# EAGLE library part TMS320DM365ZCE21 (library TMS320DM365ZCE21)
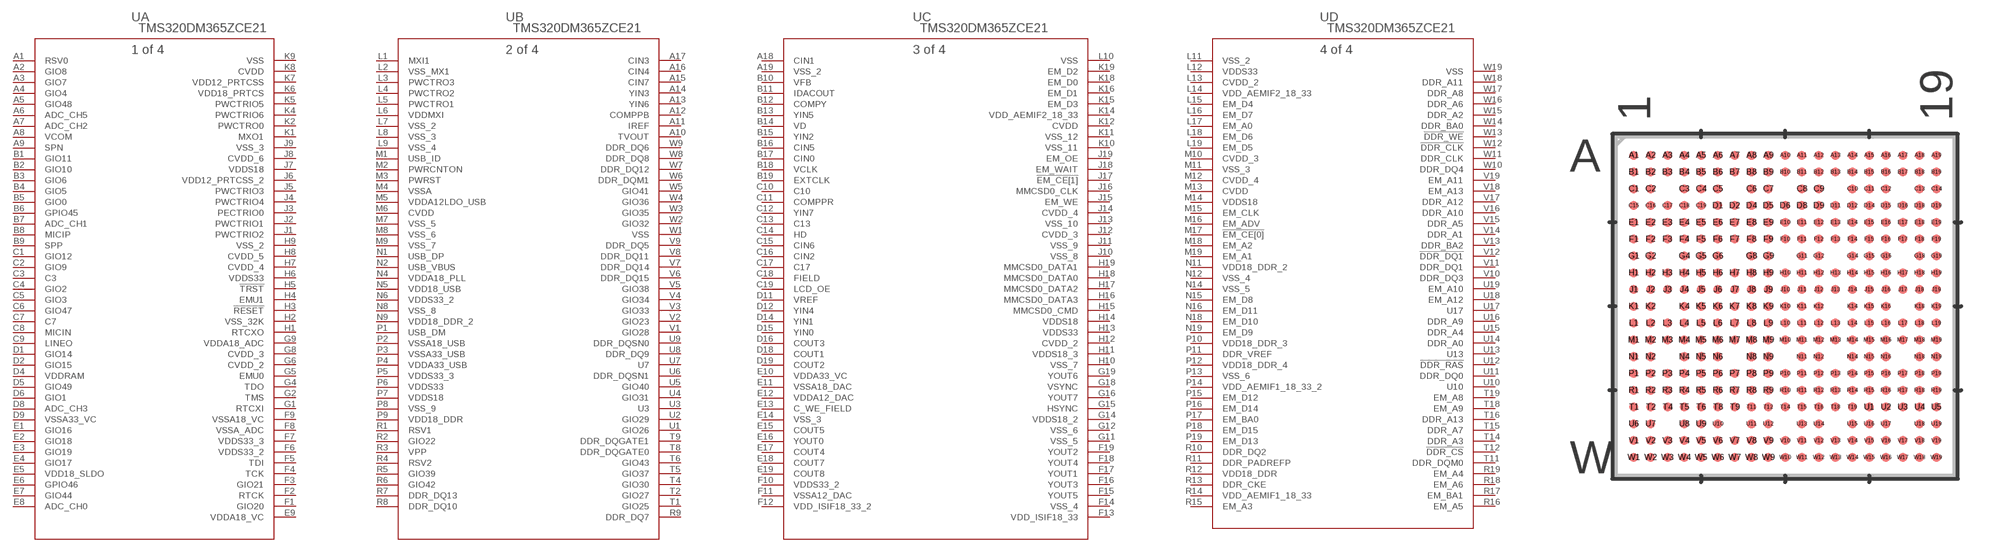
[diagram p0: symbol with the pads of ZCE338; footprint ZCE338]

Designator prefix U; gates A=TMS320DM365ZCE21_A B=TMS320DM365ZCE21_B C=TMS320DM365ZCE21_C D=TMS320DM365ZCE21_D

## TMS320DM365ZCE21 (MANUFACTURER_PART_NUMBER: TMS320DM365ZCE21; VENDOR: Texas Instruments)  [ZCE338]
A1  A:RSV0  out
A2  A:GIO8
A3  A:GIO7
A4  A:GIO4
A5  A:GIO48
A6  A:ADC_CH5  in
A7  A:ADC_CH2  in
A8  A:VCOM  out
A9  A:SPN  out
A10  B:TVOUT
A11  B:IREF
A12  B:COMPPB  out
A13  B:YIN6
A14  B:YIN3
A15  B:CIN7
A16  B:CIN4
A17  B:CIN3
A18  C:CIN1
A19  C:VSS_2  pwr
B1  A:GIO11
B2  A:GIO10
B3  A:GIO6
B4  A:GIO5
B5  A:GIO0
B6  A:GPIO45
B7  A:ADC_CH1
B8  A:MICIP  in
B9  A:SPP  out
B10  C:VFB
B11  C:IDACOUT
B12  C:COMPY  out
B13  C:YIN5
B14  C:VD
B15  C:YIN2
B16  C:CIN5
B17  C:CIN0
B18  C:VCLK
B19  C:EXTCLK
C1  A:GIO12
C2  A:GIO9
C3  A:C3  pas
C4  A:GIO2
C5  A:GIO3
C6  A:GIO47
C7  A:C7  pas
C8  A:MICIN  in
C9  A:LINEO  out
C10  C:C10  pas
C11  C:COMPPR  out
C12  C:YIN7
C13  C:C13  pas
C14  C:HD
C15  C:CIN6
C16  C:CIN2
C17  C:C17  pas
C18  C:FIELD
C19  C:LCD_OE
D1  A:GIO14
D2  A:GIO15
D4  A:VDDRAM  out
D5  A:GIO49
D6  A:GIO1
D8  A:ADC_CH3  in
D9  A:VSSA33_VC  pwr
D11  C:VREF  in
D12  C:YIN4
D14  C:YIN1
D15  C:YIN0
D16  C:COUT3
D18  C:COUT1
D19  C:COUT2
E1  A:GIO16
E2  A:GIO18
E3  A:GIO19
E4  A:GIO17
E5  A:VDD18_SLDO  pwr
E6  A:GPIO46
E7  A:GIO44
E8  A:ADC_CH0  in
E9  A:VDDA18_VC  pwr
E10  C:VDDA33_VC  pwr
E11  C:VSSA18_DAC  pwr
E12  C:VDDA12_DAC  pwr
E13  C:C_WE_FIELD
E14  C:VSS_3  pwr
E15  C:COUT5
E16  C:YOUT0
E17  C:COUT4
E18  C:COUT7
E19  C:COUT8
F1  A:GIO20
F2  A:RTCK  out
F3  A:GIO21
F4  A:TCK  in
F5  A:TDI  in
F6  A:VDDS33_2  pwr
F7  A:VDDS33_3  pwr
F8  A:VSSA_ADC  pwr
F9  A:VSSA18_VC  pwr
F10  C:VDDS33_2  pwr
F11  C:VSSA12_DAC  pwr
F12  C:VDD_ISIF18_33_2  pas
F13  C:VDD_ISIF18_33  pas
F14  C:VSS_4  pwr
F15  C:YOUT5
F16  C:YOUT3
F17  C:YOUT1
F18  C:YOUT4
F19  C:YOUT2
G1  A:RTCXI  in
G2  A:TMS  in
G4  A:TDO  out
G5  A:EMU0
G6  A:CVDD_2  pwr
G8  A:CVDD_3  pwr
G9  A:VDDA18_ADC  pwr
G11  C:VSS_5  pwr
G12  C:VSS_6  pwr
G14  C:VDDS18_2  pwr
G15  C:HSYNC
G16  C:YOUT7
G18  C:VSYNC
G19  C:YOUT6
H1  A:RTCXO  out
H2  A:VSS_32K  pwr
H3  A:!RESET  in
H4  A:EMU1
H5  A:!TRST  in
H6  A:VDDS33  pwr
H7  A:CVDD_4  pwr
H8  A:CVDD_5  pwr
H9  A:VSS_2  pwr
H10  C:VSS_7  pwr
H11  C:VDDS18_3  pwr
H12  C:CVDD_2  pwr
H13  C:VDDS33  pwr
H14  C:VDDS18  pwr
H15  C:MMCSD0_CMD
H16  C:MMCSD0_DATA3
H17  C:MMCSD0_DATA2
H18  C:MMCSD0_DATA0
H19  C:MMCSD0_DATA1
J1  A:PWCTRIO2
J2  A:PWCTRIO1
J3  A:PECTRIO0
J4  A:PWCTRIO4
J5  A:PWCTRIO3
J6  A:VDD12_PRTCSS_2  pwr
J7  A:VDDS18  pwr
J8  A:CVDD_6  pwr
J9  A:VSS_3  pwr
J10  C:VSS_8  pwr
J11  C:VSS_9  pwr
J12  C:CVDD_3  pwr
J13  C:VSS_10  pwr
J14  C:CVDD_4  pwr
J15  C:EM_WE
J16  C:MMCSD0_CLK  out
J17  C:!EM_CE[1]
J18  C:EM_WAIT
J19  C:EM_OE
K1  A:MXO1  out
K2  A:PWCTRO0  out
K4  A:PWCTRIO6
K5  A:PWCTRIO5
K6  A:VDD18_PRTCS  pwr
K7  A:VDD12_PRTCSS  pwr
K8  A:CVDD  pwr
K9  A:VSS  pwr
K10  C:VSS_11  pwr
K11  C:VSS_12  pwr
K12  C:CVDD  pwr
K14  C:VDD_AEMIF2_18_33  pwr
K15  C:EM_D3
K16  C:EM_D1
K18  C:EM_D0
K19  C:EM_D2
L1  B:MXI1  in
L2  B:VSS_MX1  pwr
L3  B:PWCTRO3  out
L4  B:PWCTRO2
L5  B:PWCTRO1  out
L6  B:VDDMXI  pwr
L7  B:VSS_2  pwr
L8  B:VSS_3  pwr
L9  B:VSS_4  pwr
L10  C:VSS  pwr
L11  D:VSS_2  pwr
L12  D:VDDS33  pwr
L13  D:CVDD_2  pwr
L14  D:VDD_AEMIF2_18_33  pwr
L15  D:EM_D4
L16  D:EM_D7
L17  D:EM_A0
L18  D:EM_D6
L19  D:EM_D5
M1  B:USB_ID  in
M2  B:PWRCNTON  in
M3  B:PWRST  in
M4  B:VSSA  pwr
M5  B:VDDA12LDO_USB  pwr
M6  B:CVDD  pwr
M7  B:VSS_5  pwr
M8  B:VSS_6  pwr
M9  B:VSS_7  pwr
M10  D:CVDD_3  pwr
M11  D:VSS_3  pwr
M12  D:CVDD_4  pwr
M13  D:CVDD  pwr
M14  D:VDDS18  pwr
M15  D:EM_CLK
M16  D:EM_ADV
M17  D:!EM_CE[0]
M18  D:EM_A2
M19  D:EM_A1
N1  B:USB_DP
N2  B:USB_VBUS
N4  B:VDDA18_PLL  pwr
N5  B:VDD18_USB  pwr
N6  B:VDDS33_2  pwr
N8  B:VSS_8  pwr
N9  B:VDD18_DDR_2  pwr
N11  D:VDD18_DDR_2  pwr
N12  D:VSS_4  pwr
N14  D:VSS_5  pwr
N15  D:EM_D8
N16  D:EM_D11
N18  D:EM_D10
N19  D:EM_D9
P1  B:USB_DM
P2  B:VSSA18_USB  pwr
P3  B:VSSA33_USB  pwr
P4  B:VDDA33_USB  pwr
P5  B:VDDS33_3  pwr
P6  B:VDDS33  pwr
P7  B:VDDS18  pwr
P8  B:VSS_9  pwr
P9  B:VDD18_DDR  pwr
P10  D:VDD18_DDR_3  pwr
P11  D:DDR_VREF  pwr
P12  D:VDD18_DDR_4  pwr
P13  D:VSS_6  pwr
P14  D:VDD_AEMIF1_18_33_2  pwr
P15  D:EM_D12
P16  D:EM_D14
P17  D:EM_BA0
P18  D:EM_D15
P19  D:EM_D13
R1  B:RSV1  out
R2  B:GIO22
R3  B:VPP
R4  B:RSV2  in
R5  B:GIO39
R6  B:GIO42
R7  B:DDR_DQ13
R8  B:DDR_DQ10
R9  B:DDR_DQ7
R10  D:DDR_DQ2
R11  D:DDR_PADREFP  out
R12  D:VDD18_DDR  pwr
R13  D:DDR_CKE  pwr
R14  D:VDD_AEMIF1_18_33  pwr
R15  D:EM_A3
R16  D:EM_A5
R17  D:EM_BA1
R18  D:EM_A6
R19  D:EM_A4
T1  B:GIO25
T2  B:GIO27
T4  B:GIO30
T5  B:GIO37
T6  B:GIO43
T8  B:DDR_DQGATE0  out
T9  B:DDR_DQGATE1  in
T11  D:DDR_DQM0  out
T12  D:!DDR_CS  pwr
T14  D:DDR_A3  out
T15  D:DDR_A7  out
T16  D:DDR_A13  out
T18  D:EM_A9
T19  D:EM_A8
U1  B:GIO26
U2  B:GIO29
U3  B:U3  pas
U4  B:GIO31
U5  B:GIO40
U6  B:DDR_DQSN1
U7  B:U7  pas
U8  B:DDR_DQ9
U9  B:DDR_DQSN0
U10  D:U10  pas
U11  D:DDR_DQ0
U12  D:!DDR_RAS  out
U13  D:U13  pas
U14  D:DDR_A0  out
U15  D:DDR_A4  out
U16  D:DDR_A9  out
U17  D:U17  pas
U18  D:EM_A12
U19  D:EM_A10
V1  B:GIO28
V2  B:GIO23
V3  B:GIO33
V4  B:GIO34
V5  B:GIO38
V6  B:DDR_DQ15
V7  B:DDR_DQ14
V8  B:DDR_DQ11
V9  B:DDR_DQ5
V10  D:DDR_DQ3
V11  D:DDR_DQ1
V12  D:!DDR_DQ1  out
V13  D:DDR_BA2  out
V14  D:DDR_A1  out
V15  D:DDR_A5  out
V16  D:DDR_A10  out
V17  D:DDR_A12  out
V18  D:EM_A13
V19  D:EM_A11
W1  B:VSS  pwr
W2  B:GIO32
W3  B:GIO35
W4  B:GIO36
W5  B:GIO41
W6  B:DDR_DQM1  out
W7  B:DDR_DQ12
W8  B:DDR_DQ8
W9  B:DDR_DQ6
W10  D:DDR_DQ4
W11  D:DDR_CLK  out
W12  D:!DDR_CLK  out
W13  D:!DDR_WE  out
W14  D:DDR_BA0  out
W15  D:DDR_A2  out
W16  D:DDR_A6  out
W17  D:DDR_A8  out
W18  D:DDR_A11  out
W19  D:VSS  pwr

## Footprint ZCE338 (pad centres in mm)
smd 0.356 x 0.356: A1 -5.85,5.85; A2 -5.2,5.85; A3 -4.55,5.85; A4 -3.9,5.85; A5 -3.25,5.85; A6 -2.6,5.85; A7 -1.95,5.85; A8 -1.3,5.85; A9 -0.65,5.85; A10 0,5.85; A11 0.65,5.85; A12 1.3,5.85; A13 1.95,5.85; A14 2.6,5.85; A15 3.25,5.85; A16 3.9,5.85; A17 4.55,5.85; A18 5.2,5.85; A19 5.85,5.85; B1 -5.85,5.2; B2 -5.2,5.2; B3 -4.55,5.2; B4 -3.9,5.2; B5 -3.25,5.2; B6 -2.6,5.2; B7 -1.95,5.2; B8 -1.3,5.2; B9 -0.65,5.2; B10 0,5.2; B11 0.65,5.2; B12 1.3,5.2; B13 1.95,5.2; B14 2.6,5.2; B15 3.25,5.2; B16 3.9,5.2; B17 4.55,5.2; B18 5.2,5.2; B19 5.85,5.2; C1 -5.85,4.55; C2 -5.2,4.55; C3 -3.9,4.55; C4 -3.25,4.55; C5 -2.6,4.55; C6 -1.3,4.55; C7 -0.65,4.55; C8 0.65,4.55; C9 1.3,4.55; C10 2.6,4.55; C11 3.25,4.55; C12 3.9,4.55; C13 5.2,4.55; C14 5.85,4.55; C15 -5.85,3.9; C16 -5.2,3.9; C17 -4.55,3.9; C18 -3.9,3.9; C19 -3.25,3.9; D1 -2.6,3.9; D2 -1.95,3.9; D4 -1.3,3.9; D5 -0.65,3.9; D6 0,3.9; D8 0.65,3.9; D9 1.3,3.9; D11 1.95,3.9; D12 2.6,3.9; D14 3.25,3.9; D15 3.9,3.9; D16 4.55,3.9; D18 5.2,3.9; D19 5.85,3.9; E1 -5.85,3.25; E2 -5.2,3.25; E3 -4.55,3.25; E4 -3.9,3.25; E5 -3.25,3.25; E6 -2.6,3.25; E7 -1.95,3.25; E8 -1.3,3.25; E9 -0.65,3.25; E10 0,3.25; E11 0.65,3.25; E12 1.3,3.25; E13 1.95,3.25; E14 2.6,3.25; E15 3.25,3.25; E16 3.9,3.25; E17 4.55,3.25; E18 5.2,3.25; E19 5.85,3.25; F1 -5.85,2.6; F2 -5.2,2.6; F3 -4.55,2.6; F4 -3.9,2.6; F5 -3.25,2.6; F6 -2.6,2.6; F7 -1.95,2.6; F8 -1.3,2.6; F9 -0.65,2.6; F10 0,2.6; F11 0.65,2.6; F12 1.3,2.6; F13 1.95,2.6; F14 2.6,2.6; F15 3.25,2.6; F16 3.9,2.6; F17 4.55,2.6; F18 5.2,2.6; F19 5.85,2.6; G1 -5.85,1.95; G2 -5.2,1.95; G4 -3.9,1.95; G5 -3.25,1.95; G6 -2.6,1.95; G8 -1.3,1.95; G9 -0.65,1.95; G11 0.65,1.95; G12 1.3,1.95; G14 2.6,1.95; G15 3.25,1.95; G16 3.9,1.95; G18 5.2,1.95; G19 5.85,1.95; H1 -5.85,1.3; H2 -5.2,1.3; H3 -4.55,1.3; H4 -3.9,1.3; H5 -3.25,1.3; H6 -2.6,1.3; H7 -1.95,1.3; H8 -1.3,1.3; H9 -0.65,1.3; H10 0,1.3; H11 0.65,1.3; H12 1.3,1.3; H13 1.95,1.3; H14 2.6,1.3; H15 3.25,1.3; H16 3.9,1.3; H17 4.55,1.3; H18 5.2,1.3; H19 5.85,1.3; J1 -5.85,0.65; J2 -5.2,0.65; J3 -4.55,0.65; J4 -3.9,0.65; J5 -3.25,0.65; J6 -2.6,0.65; J7 -1.95,0.65; J8 -1.3,0.65; J9 -0.65,0.65; J10 0,0.65; J11 0.65,0.65; J12 1.3,0.65; J13 1.95,0.65; J14 2.6,0.65; J15 3.25,0.65; J16 3.9,0.65; J17 4.55,0.65; J18 5.2,0.65; J19 5.85,0.65; K1 -5.85,0; K2 -5.2,0; K4 -3.9,0; K5 -3.25,0; K6 -2.6,0; K7 -1.95,0; K8 -1.3,0; K9 -0.65,0; K10 0,0; K11 0.65,0; K12 1.3,0; K14 2.6,0; K15 3.25,0; K16 3.9,0; K18 5.2,0; K19 5.85,0; L1 -5.85,-0.65; L2 -5.2,-0.65; L3 -4.55,-0.65; L4 -3.9,-0.65; L5 -3.25,-0.65; L6 -2.6,-0.65; L7 -1.95,-0.65; L8 -1.3,-0.65; L9 -0.65,-0.65; L10 0,-0.65; L11 0.65,-0.65; L12 1.3,-0.65; L13 1.95,-0.65; L14 2.6,-0.65; L15 3.25,-0.65; L16 3.9,-0.65; L17 4.55,-0.65; L18 5.2,-0.65; L19 5.85,-0.65; M1 -5.85,-1.3; M2 -5.2,-1.3; M3 -4.55,-1.3; M4 -3.9,-1.3; M5 -3.25,-1.3; M6 -2.6,-1.3; M7 -1.95,-1.3; M8 -1.3,-1.3; M9 -0.65,-1.3; M10 0,-1.3; M11 0.65,-1.3; M12 1.3,-1.3; M13 1.95,-1.3; M14 2.6,-1.3; M15 3.25,-1.3; M16 3.9,-1.3; M17 4.55,-1.3; M18 5.2,-1.3; M19 5.85,-1.3; N1 -5.85,-1.95; N2 -5.2,-1.95; N4 -3.9,-1.95; N5 -3.25,-1.95; N6 -2.6,-1.95; N8 -1.3,-1.95; N9 -0.65,-1.95; N11 0.65,-1.95; N12 1.3,-1.95; N14 2.6,-1.95; N15 3.25,-1.95; N16 3.9,-1.95; N18 5.2,-1.95; N19 5.85,-1.95; P1 -5.85,-2.6; P2 -5.2,-2.6; P3 -4.55,-2.6; P4 -3.9,-2.6; P5 -3.25,-2.6; P6 -2.6,-2.6; P7 -1.95,-2.6; P8 -1.3,-2.6; P9 -0.65,-2.6; P10 0,-2.6; P11 0.65,-2.6; P12 1.3,-2.6; P13 1.95,-2.6; P14 2.6,-2.6; P15 3.25,-2.6; P16 3.9,-2.6; P17 4.55,-2.6; P18 5.2,-2.6; P19 5.85,-2.6; R1 -5.85,-3.25; R2 -5.2,-3.25; R3 -4.55,-3.25; R4 -3.9,-3.25; R5 -3.25,-3.25; R6 -2.6,-3.25; R7 -1.95,-3.25; R8 -1.3,-3.25; R9 -0.65,-3.25; R10 0,-3.25; R11 0.65,-3.25; R12 1.3,-3.25; R13 1.95,-3.25; R14 2.6,-3.25; R15 3.25,-3.25; R16 3.9,-3.25; R17 4.55,-3.25; R18 5.2,-3.25; R19 5.85,-3.25; T1 -5.85,-3.9; T2 -5.2,-3.9; T4 -4.55,-3.9; T5 -3.9,-3.9; T6 -3.25,-3.9; T8 -2.6,-3.9; T9 -1.95,-3.9; T11 -1.3,-3.9; T12 -0.65,-3.9; T14 0,-3.9; T15 0.65,-3.9; T16 1.3,-3.9; T18 1.95,-3.9; T19 2.6,-3.9; U1 3.25,-3.9; U2 3.9,-3.9; U3 4.55,-3.9; U4 5.2,-3.9; U5 5.85,-3.9; U6 -5.85,-4.55; U7 -5.2,-4.55; U8 -3.9,-4.55; U9 -3.25,-4.55; U10 -2.6,-4.55; U11 -1.3,-4.55; U12 -0.65,-4.55; U13 0.65,-4.55; U14 1.3,-4.55; U15 2.6,-4.55; U16 3.25,-4.55; U17 3.9,-4.55; U18 5.2,-4.55; U19 5.85,-4.55; V1 -5.85,-5.2; V2 -5.2,-5.2; V3 -4.55,-5.2; V4 -3.9,-5.2; V5 -3.25,-5.2; V6 -2.6,-5.2; V7 -1.95,-5.2; V8 -1.3,-5.2; V9 -0.65,-5.2; V10 0,-5.2; V11 0.65,-5.2; V12 1.3,-5.2; V13 1.95,-5.2; V14 2.6,-5.2; V15 3.25,-5.2; V16 3.9,-5.2; V17 4.55,-5.2; V18 5.2,-5.2; V19 5.85,-5.2; W1 -5.85,-5.85; W2 -5.2,-5.85; W3 -4.55,-5.85; W4 -3.9,-5.85; W5 -3.25,-5.85; W6 -2.6,-5.85; W7 -1.95,-5.85; W8 -1.3,-5.85; W9 -0.65,-5.85; W10 0,-5.85; W11 0.65,-5.85; W12 1.3,-5.85; W13 1.95,-5.85; W14 2.6,-5.85; W15 3.25,-5.85; W16 3.9,-5.85; W17 4.55,-5.85; W18 5.2,-5.85; W19 5.85,-5.85